# Altium schematic symbol library PI4IOE5V96248ZLEX.SchLib: 1 symbol
Pins are listed as number, name and electrical type; pins without a type are passive.

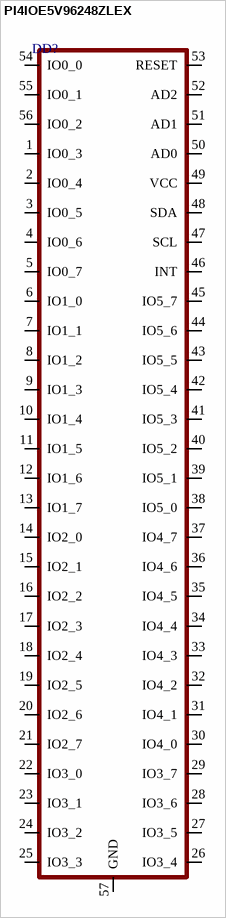
[diagram p0: symbol PI4IOE5V96248ZLEX]

## PI4IOE5V96248ZLEX
designator DD?
pins: 1 IO0_3, 2 IO0_4, 3 IO0_5, 4 IO0_6, 5 IO0_7, 6 IO1_0, 7 IO1_1, 8 IO1_2, 9 IO1_3, 10 IO1_4, 11 IO1_5, 12 IO1_6, 13 IO1_7, 14 IO2_0, 15 IO2_1, 16 IO2_2, 17 IO2_3, 18 IO2_4, 19 IO2_5, 20 IO2_6, 21 IO2_7, 22 IO3_0, 23 IO3_1, 24 IO3_2, 25 IO3_3, 26 IO3_4, 27 IO3_5, 28 IO3_6, 29 IO3_7, 30 IO4_0, 31 IO4_1, 32 IO4_2, 33 IO4_3, 34 IO4_4, 35 IO4_5, 36 IO4_6, 37 IO4_7, 38 IO5_0, 39 IO5_1, 40 IO5_2, 41 IO5_3, 42 IO5_4, 43 IO5_5, 44 IO5_6, 45 IO5_7, 46 INT, 47 SCL, 48 SDA, 49 VCC, 50 AD0, 51 AD1, 52 AD2, 53 RESET, 54 IO0_0, 55 IO0_1, 56 IO0_2, 57 GND